# EAGLE library part 61301811821 (library Board_to_Board_Connectors_rev15d)
WR-PHD 2.54mm Socket Header, 18 Pins =>Code : Con_BTB_SHD_2.54_1_THT_61301811821 <http://katalog.we-online.de/media/images/eican/Con_BTB_SHD_2.54_1_THT_6130xx11821_pf2.jpg> Details see: http://katalog.we-online.de/en/em/613_0xx_118_21 Created 2014-05-29, Karrer Zheng 2014 (C) Würth Elektronik
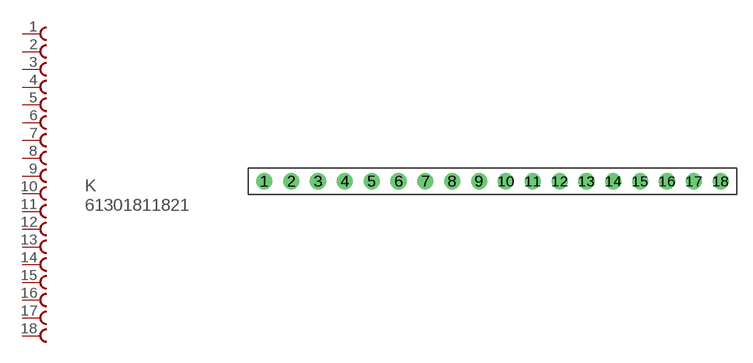
[diagram p101: symbol with the pads of 61301811821; footprint 61301811821]

Designator prefix K

## 61301811821  [61301811821]
1  1  pas
2  2  pas
3  3  pas
4  4  pas
5  5  pas
6  6  pas
7  7  pas
8  8  pas
9  9  pas
10  10  pas
11  11  pas
12  12  pas
13  13  pas
14  14  pas
15  15  pas
16  16  pas
17  17  pas
18  18  pas

## Footprint 61301811821 (pad centres in mm)
WR-PHD 2.54mm Socket Header, 18 Pins
drill 1.02: 1 -19.05,0; 2 -16.51,0; 3 -13.97,0; 4 -11.43,0; 5 -8.89,0; 6 -6.35,0; 7 -3.81,0; 8 -1.27,0; 9 1.27,0; 10 3.81,0; 11 6.35,0; 12 8.89,0; 13 11.43,0; 14 13.97,0; 15 16.51,0; 16 19.05,0; 17 21.59,0; 18 24.13,0